# Altium schematic symbol library seed_sentinel.SchLib: 49 symbols
Pins are listed as number, name and electrical type; pins without a type are passive.

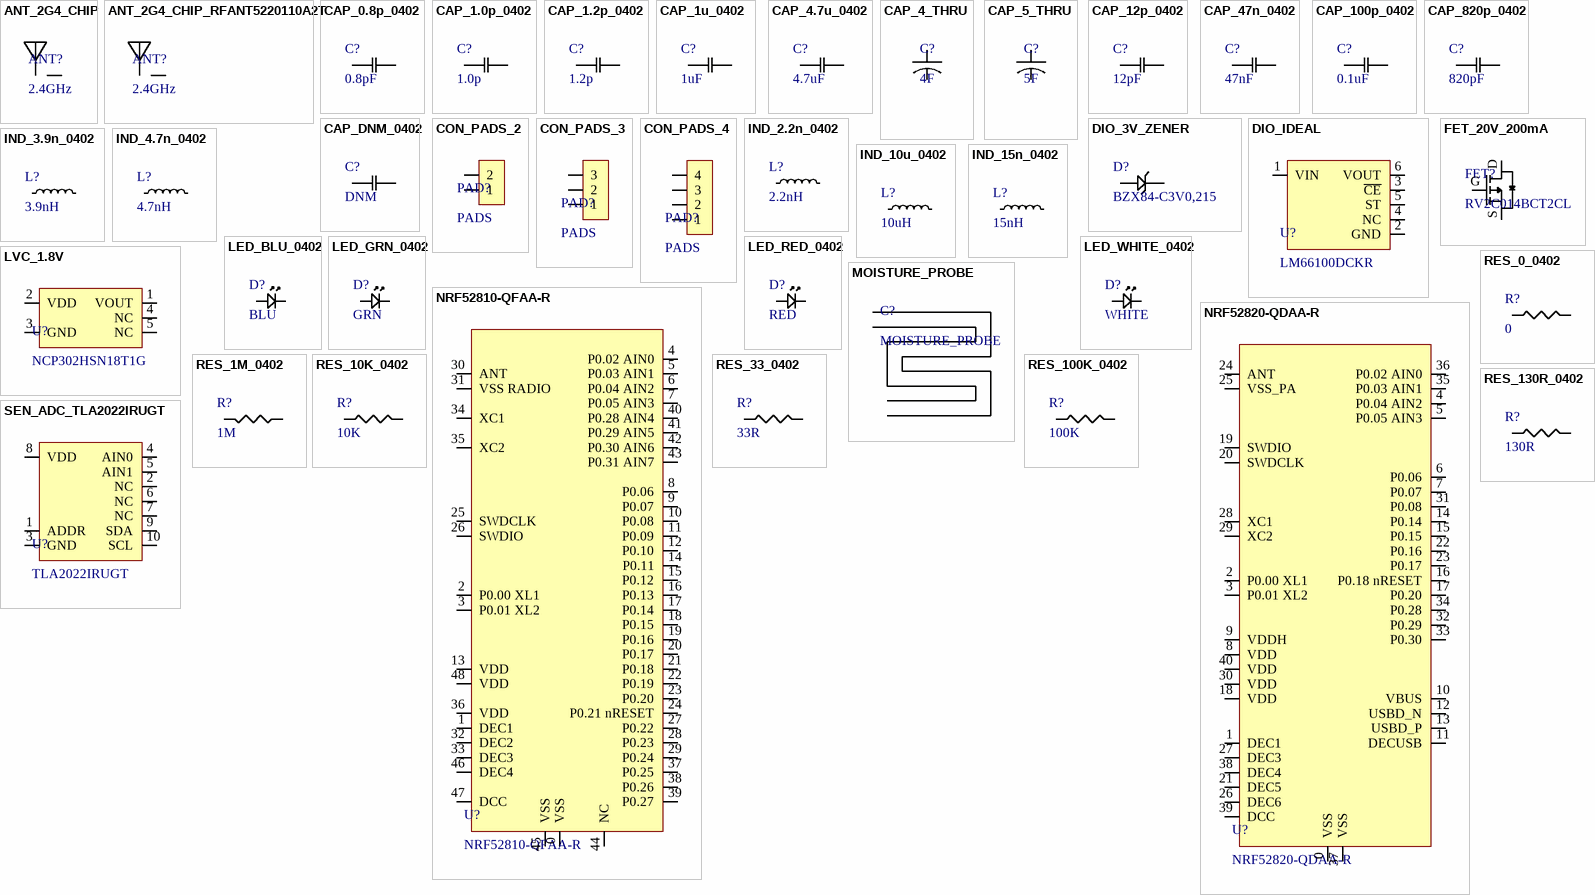
[diagram p0: symbols ANT_2G4_CHIP to SEN_ADC_TLA2022IRUGT]

## ANT_2G4_CHIP
designator ANT?, comment 2.4GHz
2.4GHz chip antenna; Supplier 1: Digi-Key; Supplier Part Number 1: 1292-1002-1-ND
footprint ANT
pins: IN, NC

## ANT_2G4_CHIP_RFANT5220110A2T
designator ANT?, comment 2.4GHz
2.4GHz chip antenna; Supplier 1: Digi-Key; Supplier Part Number 1: 1292-1001-1-ND
footprint ANT_RFANT5220110A2T
pins: IN, NC

## CAP_0.8p_0402
designator C?, comment 0.8pF
0.8pF RF capacitor; Supplier 1: Digi-Key; Supplier Part Number 1: 478-5716-1-ND
footprint CHIP_0402
pins: 1, 2

## CAP_1.0p_0402
designator C?, comment 1.0p
1.0pF RF capacitor; Supplier 1: Digi-Key; Supplier Part Number 1: 732-13231-1-ND
footprint CHIP_0402
pins: 1, 2

## CAP_1.2p_0402
designator C?, comment 1.2p
1.2pF RF capacitor; Supplier 1: Digi-Key; Supplier Part Number 1: 478-10145-1-ND
footprint CHIP_0402
pins: 1, 2

## CAP_1u_0402
designator C?, comment 1uF
Supplier 1: Digi-Key; Supplier Part Number 1: 490-13339-1-ND
footprint CHIP_0402
pins: 1, 2

## CAP_4.7u_0402
designator C?, comment 4.7uF
4.7uF 0603 6.3V; Supplier 1: Digi-Key; Supplier Part Number 1: 587-3711-1-ND
footprint CHIP_0402
pins: 1, 2

## CAP_4_THRU
designator C?, comment 4F
4F 3V supercap; Supplier 1: Digi-Key; Supplier Part Number 1: 338-DSF405M3R0-ND
footprint CAP_8mm
pins: +, -

## CAP_5_THRU
designator C?, comment 5F
5F 3V supercap; Supplier 1: Mouser; Supplier Part Number 1: 598-DSF505Q3R0
footprint CAP_10mm
pins: +, -

## CAP_12p_0402
designator C?, comment 12pF
12pF NP0 0603 Capacitor; Supplier 1: Digi-Key; Supplier Part Number 1: 399-19370-1-ND
footprint CHIP_0402
pins: 1, 2

## CAP_47n_0402
designator C?, comment 47nF
47nF 0603 6.3V; Supplier 1: Digi-Key; Supplier Part Number 1: 1292-1213-1-ND
footprint CHIP_0402
pins: 1, 2

## CAP_100p_0402
designator C?, comment 0.1uF
0.1uF X7R 0805 Capacitor; Supplier 1: Digi-Key; Supplier Part Number 1: 1276-1004-1-ND
footprint CHIP_0402
pins: 1, 2

## CAP_820p_0402
designator C?, comment 820pF
820pF X7R 0805 Capacitor; Supplier 1: Digi-Key; Supplier Part Number 1: 311-3776-1-ND
footprint CHIP_0402
pins: 1, 2

## CAP_DNM_0402
designator C?, comment DNM
footprint CHIP_0402
pins: 1, 2

## CON_PADS_2
designator PAD?, comment PADS
footprint CON_PADS_2
pins: 1, 2

## CON_PADS_3
designator PAD?, comment PADS
footprint CON_PADS_3
pins: 1, 2, 3

## CON_PADS_4
designator PAD?, comment PADS
footprint CON_PADS_4
pins: 1, 2, 3, 4

## DIO_3V_ZENER
designator D?, comment BZX84-C3V0,215
Supplier 1: Digi-Key; Supplier Part Number 1: 1727-5032-1-ND
footprint SOT_23
pins: 1, 3

## DIO_IDEAL
designator U?, comment LM66100DCKR
Ideal diode; Supplier 1: Digi-Key; Supplier Part Number 1: 296-53541-1-ND
footprint SC70-6
pins: 1 VIN, 2 GND, 3 ~{CE}, 4 NC, 5 ST, 6 VOUT

## FET_20V_200mA
designator FET?, comment RV2C014BCT2CL
Supplier 1: Digi-Key; Supplier Part Number 1: RV2C014BCT2CLCT-ND
footprint DFN1006-3
pins: D, G, S

## IND_2.2n_0402
designator L?, comment 2.2nH
2.2nH high frequency; Supplier 1: Digi-Key; Supplier Part Number 1: 445-9409-1-ND
footprint CHIP_0402
pins: 1, 2

## IND_3.9n_0402
designator L?, comment 3.9nH
3.9nH high frequency; Supplier 1: Digi-Key; Supplier Part Number 1: 445-172424-1-ND
footprint CHIP_0402
pins: 1, 2

## IND_4.7n_0402
designator L?, comment 4.7nH
4.7nH high frequency; Supplier 1: Digi-Key; Supplier Part Number 1: 445-9417-1-ND
footprint CHIP_0402
pins: 1, 2

## IND_10u_0402
designator L?, comment 10uH
10uH chip inductor; Supplier 1: Digi-Key; Supplier Part Number 1: 535-11587-1-ND
footprint CHIP_0603
pins: 1, 2

## IND_15n_0402
designator L?, comment 15nH
15nH chip inductor; Supplier 1: Digi-Key; Supplier Part Number 1: 2184-BSCH0010050515NJCPCT-ND
footprint CHIP_0402
pins: 1, 2

## LED_BLU_0402
designator D?, comment BLU
Supplier 1: Digi-Key; Supplier Part Number 1: 350-4448-1-ND
footprint LED_0402
pins: A, C

## LED_GRN_0402
designator D?, comment GRN
Supplier 1: Digi-Key; Supplier Part Number 1: 754-1811-1-ND
footprint LED_0402
pins: A, C

## LED_RED_0402
designator D?, comment RED
Supplier 1: Digi-Key; Supplier Part Number 1: 1080-EAST1005RA0CT-ND
footprint LED_0402
pins: A, C

## LED_WHITE_0402
designator D?, comment WHITE
Supplier 1: Digi-Key; Supplier Part Number 1: VLMW1300-GS08CT-ND
footprint LED_0402
pins: A, C

## LVC_1.8V
designator U?, comment NCP302HSN18T1G
1.8V low voltage cutoff; Supplier 1: Digi-Key; Supplier Part Number 1: 488-NCP302HSN18T1GCT-ND
footprint TSOP-5
pins: 1 VOUT, 2 VDD, 3 GND, 4 NC, 5 NC

## MOISTURE_PROBE
designator C?
footprint MOIST_CAP
pins: 1, 2

## NRF52810-QFAA-R
designator U?
Supplier 1: Digi-Key; Supplier Part Number 1: 1490-1063-2-ND
footprint QFN48 6x6
pins: 0 VSS, 1 DEC1, 2 P0.00 XL1, 3 P0.01 XL2, 4 P0.02 AIN0, 5 P0.03 AIN1, 6 P0.04 AIN2, 7 P0.05 AIN3, 8 P0.06, 9 P0.07, 10 P0.08, 11 P0.09, 12 P0.10, 13 VDD, 14 P0.11, 15 P0.12, 16 P0.13, 17 P0.14, 18 P0.15, 19 P0.16, 20 P0.17, 21 P0.18, 22 P0.19, 23 P0.20, 24 P0.21 nRESET, 25 SWDCLK, 26 SWDIO, 27 P0.22, 28 P0.23, 29 P0.24, 30 ANT, 31 VSS RADIO, 32 DEC2, 33 DEC3, 34 XC1, 35 XC2, 36 VDD, 37 P0.25, 38 P0.26, 39 P0.27, 40 P0.28 AIN4, 41 P0.29 AIN5, 42 P0.30 AIN6, 43 P0.31 AIN7, 44 NC, 45 VSS, 46 DEC4, 47 DCC, 48 VDD

## NRF52820-QDAA-R
designator U?
Supplier 1: Digi-Key; Supplier Part Number 1: 1490-NRF52820-QDAA-RCT-ND
footprint QFN40 5x5
pins: 0 VSS, 1 DEC1, 2 P0.00 XL1, 3 P0.01 XL2, 4 P0.04 AIN2, 5 P0.05 AIN3, 6 P0.06, 7 P0.07, 8 VDD, 9 VDDH, 10 VBUS, 11 DECUSB, 12 USBD_N, 13 USBD_P, 14 P0.14, 15 P0.15, 16 P0.18 nRESET, 17 P0.20, 18 VDD, 19 SWDIO, 20 SWDCLK, 21 DEC5, 22 P0.16, 23 P0.17, 24 ANT, 25 VSS_PA, 26 DEC6, 27 DEC3, 28 XC1, 29 XC2, 30 VDD, 31 P0.08, 32 P0.29, 33 P0.30, 34 P0.28, 35 P0.03 AIN1, 36 P0.02 AIN0, 37 VSS, 38 DEC4, 39 DCC, 40 VDD

## RES_0_0402
designator R?, comment 0
Supplier 1: Digi-Key; Supplier Part Number 1: CR0402-J/-000GLFCT-ND
footprint CHIP_0402
pins: 1, 2

## RES_1M_0402
designator R?, comment 1M
1Mohm; Supplier 1: Digi-Key; Supplier Part Number 1: 2037-PFR05S-105-FNHCT-ND
footprint CHIP_0402
pins: 1, 2

## RES_10K_0402
designator R?, comment 10K
10Kohm; Supplier 1: Digi-Key; Supplier Part Number 1: CR0402-FX-1002GLFCT-ND
footprint CHIP_0402
pins: 1, 2

## RES_33_0402
designator R?, comment 33R
33ohm; Supplier 1: Digi-Key; Supplier Part Number 1: CR0402-FX-33R0GLFCT-ND
footprint CHIP_0402
pins: 1, 2

## RES_100K_0402
designator R?, comment 100K
100Kohm; Supplier 1: Digi-Key; Supplier Part Number 1: CR0402-FX-1003GLFCT-ND
footprint CHIP_0402
pins: 1, 2

## RES_130R_0402
designator R?, comment 130R
130ohm; Supplier 1: Digi-Key; Supplier Part Number 1: RMCF0402JT130RCT-ND
footprint CHIP_0402
pins: 1, 2

## SEN_ADC_TLA2022IRUGT
designator U?, comment TLA2022IRUGT
Supplier 1: Digi-Key; Supplier Part Number 1: 296-48345-1-ND
footprint RQFP_10
pins: 1 ADDR, 2 NC, 3 GND, 4 AIN0, 5 AIN1, 6 NC, 7 NC, 8 VDD, 9 SDA, 10 SCL

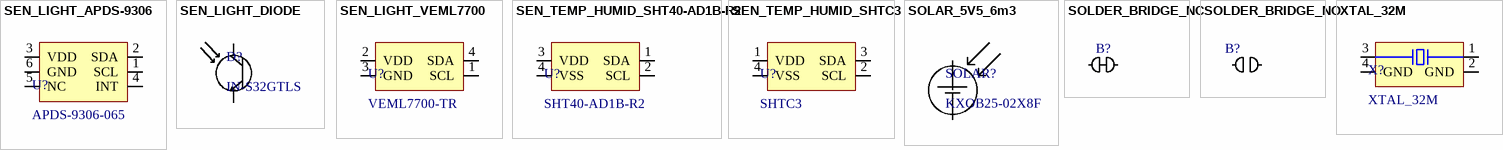
[diagram p1: symbols SEN_LIGHT_APDS-9306 to XTAL_32M]

## SEN_LIGHT_APDS-9306
designator U?, comment APDS-9306-065
Supplier 1: Digi-Key; Supplier Part Number 1: 516-3578-1-ND
footprint APDS-9306
pins: 1 SCL, 2 SDA, 3 VDD, 4 INT, 5 NC, 6 GND

## SEN_LIGHT_DIODE
designator D?, comment IN-S32GTLS
Ambient light sensor; Supplier 1: Digi-Key; Supplier Part Number 1: 1830-IN-S32GTLSCT-ND
footprint IN-S32GTLS_SIDE_MOUNT
pins: C, E

## SEN_LIGHT_VEML7700
designator U?, comment VEML7700-TR
Supplier 1: Digi-Key; Supplier Part Number 1: VEML7700CT-ND
footprint VEML7700
pins: 1 SCL, 2 VDD, 3 GND, 4 SDA

## SEN_TEMP_HUMID_SHT40-AD1B-R2
designator U?, comment SHT40-AD1B-R2
Supplier 1: Digi-Key; Supplier Part Number 1: 1649-SHT40-AD1B-R2CT-ND
footprint TEMP_HUMID
pins: 1 SDA, 2 SCL, 3 VDD, 4 VSS

## SEN_TEMP_HUMID_SHTC3
designator U?, comment SHTC3
Supplier 1: Digi-Key; Supplier Part Number 1: 1649-1105-1-ND
footprint SHTC3
pins: 1 VDD, 2 SCL, 3 SDA, 4 VSS

## SOLAR_5V5_6m3
designator SOLAR?, comment KXOB25-02X8F
26.3mW 6.3mA 5.53V; Supplier 1: Digi-Key; Supplier Part Number 1: KXOB25-02X8F-ND
footprint SOLAR
pins: +, -

## SOLDER_BRIDGE_NC
designator B?, comment SOLDER_BRIDGE_C  (value not drawn)  (net tie, no BOM)
footprint SOLDER_BRIDGE_NC
pins: 1, 2

## SOLDER_BRIDGE_NO
designator B?  (value not drawn)
footprint SOLDER_BRIDGE_NO
pins: 1, 2

## XTAL_32M
designator X?
Supplier 1: Digi-Key; Supplier Part Number 1: 50-ECS-320-8-47B-CKY-CT-ND
footprint ECS-320
pins: 1, 2 GND, 3, 4 GND